# EAGLE library part ACS723 (library graftel-internal-ic)
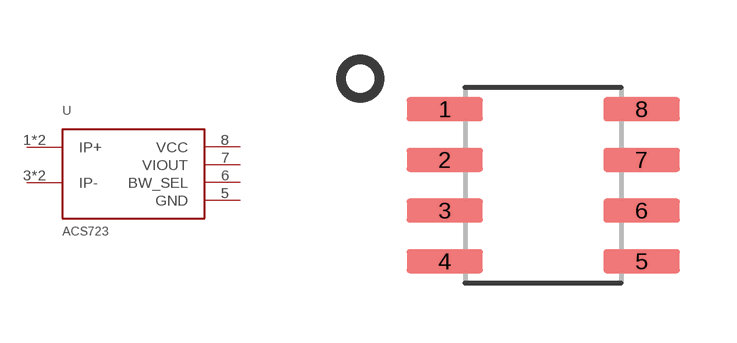
[diagram p55: symbol with the pads of SOIC127P600X175-8N; footprint SOIC127P600X175-8N]

Designator prefix U

## ACS723  [SOIC127P600X175-8N]
1  IP+
2  IP+
3  IP-
4  IP-
5  GND
6  BW_SEL
7  VIOUT
8  VCC

## Footprint SOIC127P600X175-8N (pad centres in mm)
smd 1.91 x 0.6: 1 -2.46,1.905; 2 -2.46,0.635; 3 -2.46,-0.635; 4 -2.46,-1.905; 5 2.46,-1.905; 6 2.46,-0.635; 7 2.46,0.635; 8 2.46,1.905